# Altium integrated library Infineon_Microcontroller.IntLib: 721 symbols (part 1 of 66)
Pins are listed as number, name and electrical type; pins without a type are passive.

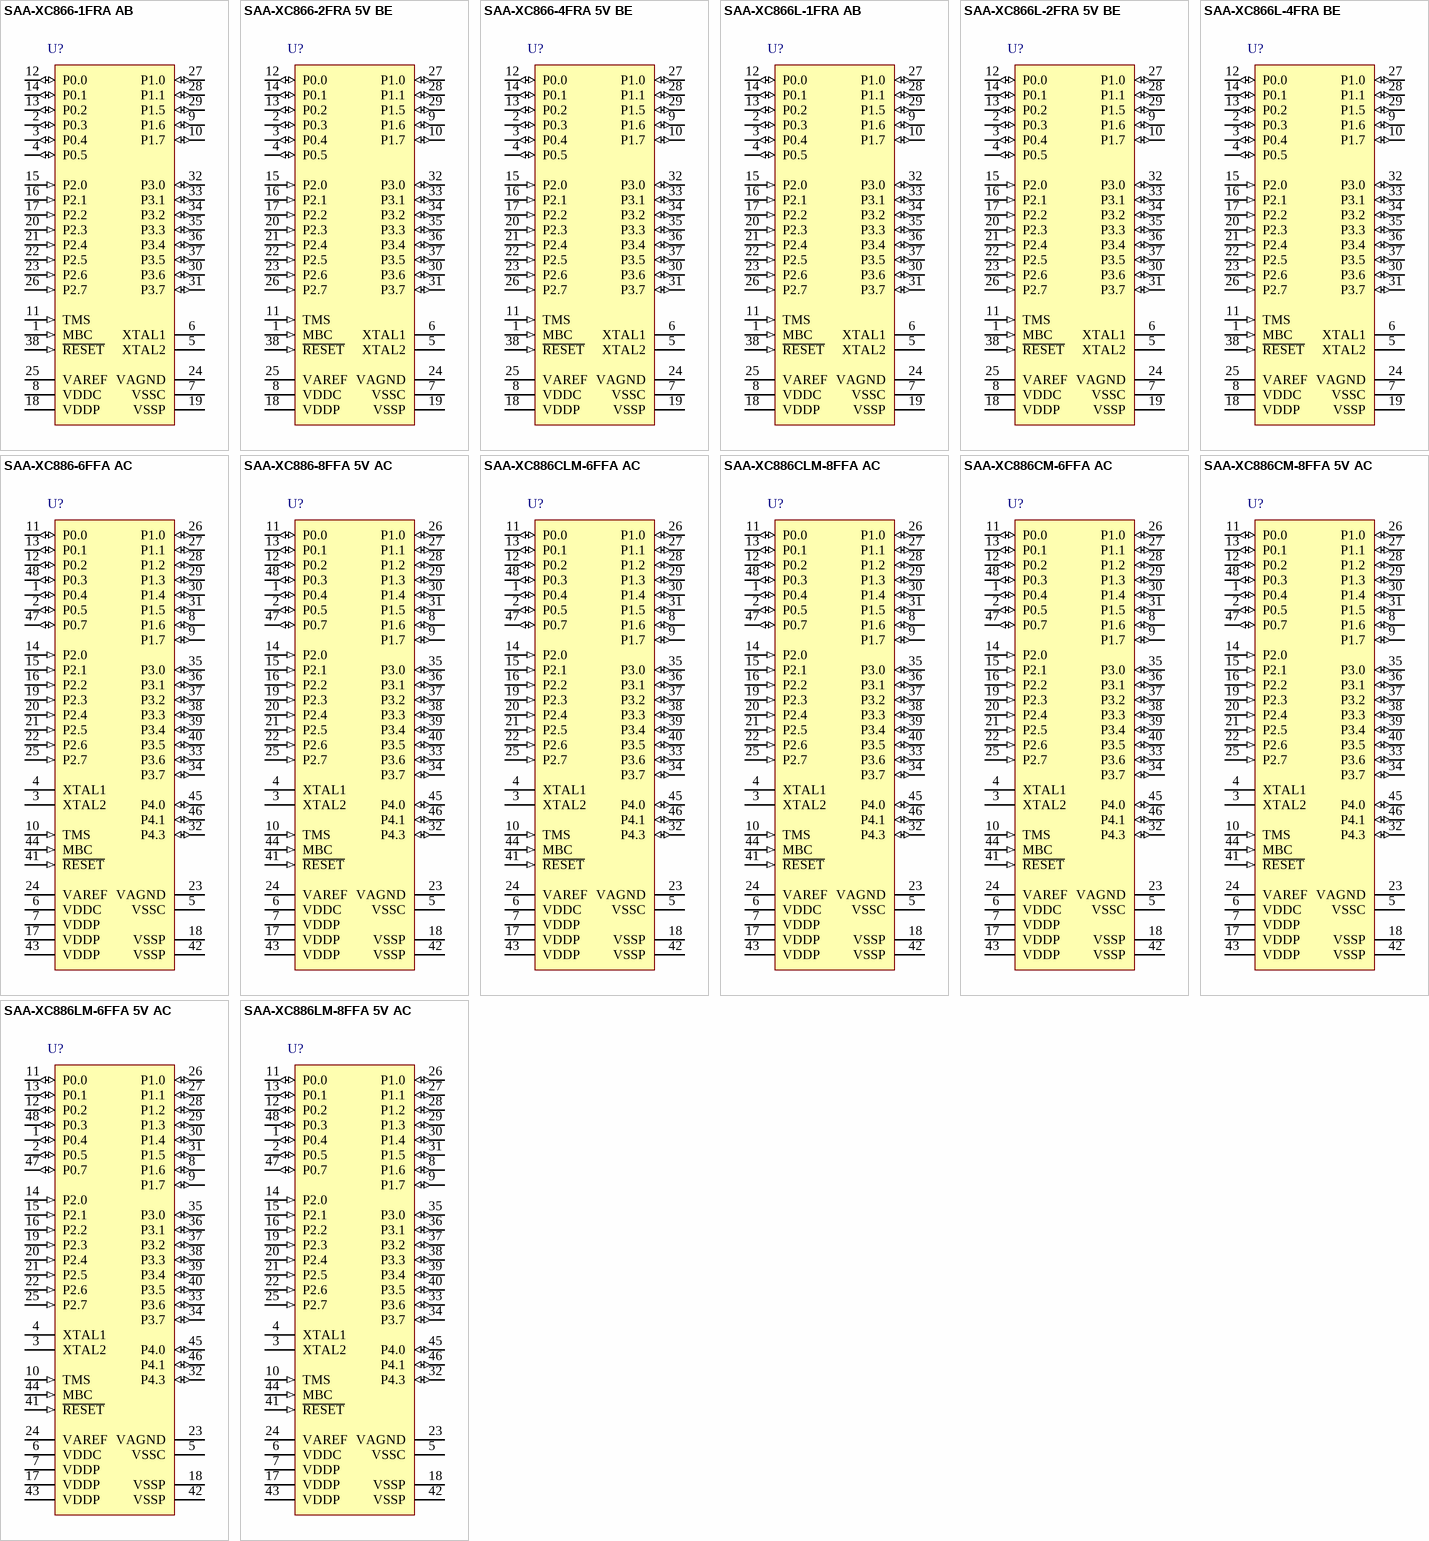
[diagram p0: symbols SAA-XC866-1FRA AB to SAA-XC886LM-8FFA 5V AC]

## SAA-XC866-1FRA AB
designator U?
26.67 MHz XC800-Automotive MCU with 4 KByte Program Memory, 0.75 KByte SRAM, 5 V, 3.3 V, PG-TSSOP-38, Reel, Green; Manufacturer: Infineon; PartNumber: SAA-XC866-1FRA AB; A / D input lines (incl. FADC): 8; CAN Nodes: 0; Digital I/O Lines: 27; DSP functionality (e.g MDU/MAC): FALSE; E2PROM Emulation (Data-Flash): TRUE; I/O Operation Voltages: 5 V 3.3 V; LIN BSL loader (for fast Flash programming): FALSE; Number of ADC Modules: 1; Power Modes: 4; Program Memory: 4 KByte; Serial I/O Interfaces: 2; Timer / Counter: 3; Type of Memory: Flash; Type of Serial I/O Interfaces: UART(1), SSC(1); DatasheetVersion: Rev. 1.5; PackageVersion: V1.2, 10/2007; PackageReference: PG-TSSOP-38-4; PackageDescription: 38-Pin Plastic (Green) Thin Shrink Small Outline Package, Body 9.7 x 4.4 mm, Pitch 0.5 mm; Supplier 1: Digi-Key; Supplier Part Number 1: SAA-XC866-1FRA AB-ND; DMA Channels: 0; Green: TRUE; Halogen-free: TRUE; Instruction width [bits]: 8; Max Clock Frequency: 26.67 MHz; On-chip clock generation: TRUE; On-chip Voltage Regulator: TRUE; Oscillator Watchdog: TRUE; Real Time Clock (RTC): FALSE; SRAM (incl. Cache): 0.75 KByte; Timed I/O Pins (PWM-Ch,CAPCOM): 4; Watchdog Timer: TRUE; Mounting Technology: Surface Mount; ComponentLink1Description: Manufacturer URL; ComponentLink1URL: http://www.infineon.com/; ComponentLink2Description: Datasheet; ComponentLink2URL: http://www.infineon.com/dgdl/SAA_XC866_ds_v1.5.pdf?folderId=db3a304412b407950112b408e8c90004&fileId=db3a30431689f442011690d942dc0119; ComponentLink3Description: Package Specification; ComponentLink3URL: http://www.infineon.com/dgdl/XC866_ds_v12.pdf?folderId=db3a304412b407950112b408e8c90004&fileId=db3a304412b407950112b4198e7528a5&sId=db3a30433d956bc3013da013eedc2925
footprint INF-PG-TSSOP-38-4_N (SOP, 38-Leads, Body 9.7x4.4mm, Pitch 0.5mm, IPC Medium Density)
footprint INF-PG-TSSOP-38-4_L (SOP, 38-Leads, Body 9.7x4.4mm, Pitch 0.5mm, IPC High Density)
footprint INF-PG-TSSOP-38-4_M (SOP, 38-Leads, Body 9.7x4.4mm, Pitch 0.5mm, IPC Low Density)
pins: 1 MBC (in) "Monitor & BootStrap Loader Control", 2 P0.3 (io), 3 P0.4 (io), 4 P0.5 (io), 5 XTAL2 "External Oscillator Output (NC if not needed)", 6 XTAL1 "External Oscillator Input (NC if not needed)", 7 VSSC (power) "Core Supply Ground", 8 VDDC (power) "Core Supply Monitor (2.5 V)", 9 P1.6 (io), 10 P1.7 (io), 11 TMS (in) "Test Mode Select", 12 P0.0 (io), 13 P0.2 (io), 14 P0.1 (io), 15 P2.0 (in), 16 P2.1 (in), 17 P2.2 (in), 18 VDDP (power) "I/O Port Supply (3.3 V/5.0 V) Also used by EVR and analog modules.", 19 VSSP (power) "I/O Port Ground", 20 P2.3 (in), 21 P2.4 (in), 22 P2.5 (in), 23 P2.6 (in), 24 VAGND (power) "ADC Reference Ground", 25 VAREF (power) "ADC Reference Voltage", 26 P2.7 (in), 27 P1.0 (io), 28 P1.1 (io), 29 P1.5 (io), 30 P3.6 (io), 31 P3.7 (io), 32 P3.0 (io), 33 P3.1 (io), 34 P3.2 (io), 35 P3.3 (io), 36 P3.4 (io), 37 P3.5 (io), 38 ~{RESET} (in) "Reset Input"

## SAA-XC866-2FRA 5V BE
designator U?
26.67 MHz XC800-Automotive MCU with 8 KByte Program Memory, 0.75 KByte SRAM, 5 V, 3.3 V, PG-TSSOP-38, Reel, Green; Manufacturer: Infineon; PartNumber: SAA-XC866-2FRA 5V BE; A / D input lines (incl. FADC): 8; CAN Nodes: 0; Digital I/O Lines: 27; DSP functionality (e.g MDU/MAC): FALSE; E2PROM Emulation (Data-Flash): TRUE; I/O Operation Voltages: 5 V 3.3 V; LIN BSL loader (for fast Flash programming): FALSE; Number of ADC Modules: 1; Power Modes: 4; Program Memory: 8 KByte; Serial I/O Interfaces: 2; Timer / Counter: 3; Type of Memory: Flash; Type of Serial I/O Interfaces: UART(1), SSC(1); DatasheetVersion: Rev. 1.5; PackageVersion: V1.2, 10/2007; PackageReference: PG-TSSOP-38-4; PackageDescription: 38-Pin Plastic (Green) Thin Shrink Small Outline Package, Body 9.7 x 4.4 mm, Pitch 0.5 mm; Supplier 1: Digi-Key; Supplier Part Number 1: SAA-XC866-2FRA5VBEINTR-ND; Supplier 2: Digi-Key; Supplier Part Number 2: SAA-XC866-2FRA5VBEINCT-ND; Supplier 3: Digi-Key; Supplier Part Number 3: SAA-XC866-2FRA5VBEINDKR-ND; DMA Channels: 0; Green: TRUE; Halogen-free: TRUE; Instruction width [bits]: 8; Max Clock Frequency: 26.67 MHz; On-chip clock generation: TRUE; On-chip Voltage Regulator: TRUE; Oscillator Watchdog: TRUE; Packing: Reel; Real Time Clock (RTC): FALSE; SRAM (incl. Cache): 0.75 KByte; Timed I/O Pins (PWM-Ch,CAPCOM): 4; Watchdog Timer: TRUE; Mounting Technology: Surface Mount; ComponentLink1Description: Manufacturer URL; ComponentLink1URL: http://www.infineon.com/; ComponentLink2Description: Datasheet; ComponentLink2URL: http://www.infineon.com/dgdl/SAA_XC866_ds_v1.5.pdf?folderId=db3a304412b407950112b408e8c90004&fileId=db3a30431689f442011690d942dc0119; ComponentLink3Description: Package Specification; ComponentLink3URL: http://www.infineon.com/dgdl/XC866_ds_v12.pdf?folderId=db3a304412b407950112b408e8c90004&fileId=db3a304412b407950112b4198e7528a5&sId=db3a30433d956bc3013da013eedc2925
footprint INF-PG-TSSOP-38-4_N (SOP, 38-Leads, Body 9.7x4.4mm, Pitch 0.5mm, IPC Medium Density)
footprint INF-PG-TSSOP-38-4_L (SOP, 38-Leads, Body 9.7x4.4mm, Pitch 0.5mm, IPC High Density)
footprint INF-PG-TSSOP-38-4_M (SOP, 38-Leads, Body 9.7x4.4mm, Pitch 0.5mm, IPC Low Density)
pins: 1 MBC (in) "Monitor & BootStrap Loader Control", 2 P0.3 (io), 3 P0.4 (io), 4 P0.5 (io), 5 XTAL2 "External Oscillator Output (NC if not needed)", 6 XTAL1 "External Oscillator Input (NC if not needed)", 7 VSSC (power) "Core Supply Ground", 8 VDDC (power) "Core Supply Monitor (2.5 V)", 9 P1.6 (io), 10 P1.7 (io), 11 TMS (in) "Test Mode Select", 12 P0.0 (io), 13 P0.2 (io), 14 P0.1 (io), 15 P2.0 (in), 16 P2.1 (in), 17 P2.2 (in), 18 VDDP (power) "I/O Port Supply (3.3 V/5.0 V) Also used by EVR and analog modules.", 19 VSSP (power) "I/O Port Ground", 20 P2.3 (in), 21 P2.4 (in), 22 P2.5 (in), 23 P2.6 (in), 24 VAGND (power) "ADC Reference Ground", 25 VAREF (power) "ADC Reference Voltage", 26 P2.7 (in), 27 P1.0 (io), 28 P1.1 (io), 29 P1.5 (io), 30 P3.6 (io), 31 P3.7 (io), 32 P3.0 (io), 33 P3.1 (io), 34 P3.2 (io), 35 P3.3 (io), 36 P3.4 (io), 37 P3.5 (io), 38 ~{RESET} (in) "Reset Input"

## SAA-XC866-4FRA 5V BE
designator U?
26.67 MHz XC800-Automotive MCU with 16 KByte Program Memory, 0.75 KByte SRAM, 5 V 3.3 V, PG-TSSOP-38, Reel, Green; Manufacturer: Infineon; PartNumber: SAA-XC866-4FRA 5V BE; A / D input lines (incl. FADC): 8; CAN Nodes: 0; Digital I/O Lines: 27; DSP functionality (e.g MDU/MAC): FALSE; E2PROM Emulation (Data-Flash): TRUE; I/O Operation Voltages: 5 V 3.3 V; LIN BSL loader (for fast Flash programming): FALSE; Number of ADC Modules: 1; Power Modes: 4; Serial I/O Interfaces: 2; Timer / Counter: 3; Type of Memory: Flash; Type of Serial I/O Interfaces: UART(1), SSC(1); DatasheetVersion: Rev. 1.5; PackageVersion: V1.2, 10/2007; PackageReference: PG-TSSOP-38-4; PackageDescription: 38-Pin Plastic (Green) Thin Shrink Small Outline Package, Body 9.7 x 4.4 mm, Pitch 0.5 mm; Supplier 1: Digi-Key; Supplier Part Number 1: SAA-XC866-4FRA5VBEINTR-ND; Supplier 2: Digi-Key; Supplier Part Number 2: SAA-XC866-4FRA5VBEINCT-ND; Supplier 3: Digi-Key; Supplier Part Number 3: SAA-XC866-4FRA5VBEINDKR-ND; DMA Channels: 0; Green: TRUE; Halogen-free: TRUE; Instruction width [bits]: 8; Max Clock Frequency: 26.67 MHz; On-chip clock generation: TRUE; On-chip Voltage Regulator: TRUE; Oscillator Watchdog: TRUE; Packing: Reel; Program Memory: 16 KByte; Real Time Clock (RTC): FALSE; SRAM (incl. Cache): 0.75 KByte; Timed I/O Pins (PWM-Ch,CAPCOM): 4; Watchdog Timer: TRUE; Mounting Technology: Surface Mount; ComponentLink1Description: Manufacturer URL; ComponentLink1URL: http://www.infineon.com/; ComponentLink2Description: Datasheet; ComponentLink2URL: http://www.infineon.com/dgdl/SAA_XC866_ds_v1.5.pdf?folderId=db3a304412b407950112b408e8c90004&fileId=db3a30431689f442011690d942dc0119; ComponentLink3Description: Package Specification; ComponentLink3URL: http://www.infineon.com/dgdl/XC866_ds_v12.pdf?folderId=db3a304412b407950112b408e8c90004&fileId=db3a304412b407950112b4198e7528a5&sId=db3a30433d956bc3013da013eedc2925
footprint INF-PG-TSSOP-38-4_N (SOP, 38-Leads, Body 9.7x4.4mm, Pitch 0.5mm, IPC Medium Density)
footprint INF-PG-TSSOP-38-4_L (SOP, 38-Leads, Body 9.7x4.4mm, Pitch 0.5mm, IPC High Density)
footprint INF-PG-TSSOP-38-4_M (SOP, 38-Leads, Body 9.7x4.4mm, Pitch 0.5mm, IPC Low Density)
pins: 1 MBC (in) "Monitor & BootStrap Loader Control", 2 P0.3 (io), 3 P0.4 (io), 4 P0.5 (io), 5 XTAL2 "External Oscillator Output (NC if not needed)", 6 XTAL1 "External Oscillator Input (NC if not needed)", 7 VSSC (power) "Core Supply Ground", 8 VDDC (power) "Core Supply Monitor (2.5 V)", 9 P1.6 (io), 10 P1.7 (io), 11 TMS (in) "Test Mode Select", 12 P0.0 (io), 13 P0.2 (io), 14 P0.1 (io), 15 P2.0 (in), 16 P2.1 (in), 17 P2.2 (in), 18 VDDP (power) "I/O Port Supply (3.3 V/5.0 V) Also used by EVR and analog modules.", 19 VSSP (power) "I/O Port Ground", 20 P2.3 (in), 21 P2.4 (in), 22 P2.5 (in), 23 P2.6 (in), 24 VAGND (power) "ADC Reference Ground", 25 VAREF (power) "ADC Reference Voltage", 26 P2.7 (in), 27 P1.0 (io), 28 P1.1 (io), 29 P1.5 (io), 30 P3.6 (io), 31 P3.7 (io), 32 P3.0 (io), 33 P3.1 (io), 34 P3.2 (io), 35 P3.3 (io), 36 P3.4 (io), 37 P3.5 (io), 38 ~{RESET} (in) "Reset Input"

## SAA-XC866L-1FRA AB
designator U?
26.67 MHz XC800-Automotive MCU with 4 KByte Program Memory, 0.75 KByte SRAM, 5 V, 3.3 V, PG-TSSOP-38, Reel, Green; Manufacturer: Infineon; PartNumber: SAA-XC866L-1FRA AB; A / D input lines (incl. FADC): 8; CAN Nodes: 0; Digital I/O Lines: 27; DSP functionality (e.g MDU/MAC): FALSE; E2PROM Emulation (Data-Flash): TRUE; I/O Operation Voltages: 5 V 3.3 V; LIN BSL loader (for fast Flash programming): FALSE; Number of ADC Modules: 1; Power Modes: 4; Program Memory: 4 KByte; Serial I/O Interfaces: 2; Timer / Counter: 3; Type of Memory: Flash; Type of Serial I/O Interfaces: UART(1), SSC(1); DatasheetVersion: Rev. 1.5; PackageVersion: V1.2, 10/2007; PackageReference: PG-TSSOP-38-4; PackageDescription: 38-Pin Plastic (Green) Thin Shrink Small Outline Package, Body 9.7 x 4.4 mm, Pitch 0.5 mm; Supplier 1: Digi-Key; Supplier Part Number 1: SAA-XC866L-1FRA AB-ND; DMA Channels: 0; Green: TRUE; Halogen-free: available; Instruction width [bits]: 8; Max Clock Frequency: 26.67 MHz; On-chip clock generation: TRUE; On-chip Voltage Regulator: TRUE; Oscillator Watchdog: TRUE; Real Time Clock (RTC): FALSE; SRAM (incl. Cache): 0.75 KByte; Timed I/O Pins (PWM-Ch,CAPCOM): 4; Watchdog Timer: TRUE; Mounting Technology: Surface Mount; ComponentLink1Description: Manufacturer URL; ComponentLink1URL: http://www.infineon.com/; ComponentLink2Description: Datasheet; ComponentLink2URL: http://www.infineon.com/dgdl/SAA_XC866_ds_v1.5.pdf?folderId=db3a304412b407950112b408e8c90004&fileId=db3a30431689f442011690d942dc0119; ComponentLink3Description: Package Specification; ComponentLink3URL: http://www.infineon.com/dgdl/XC866_ds_v12.pdf?folderId=db3a304412b407950112b408e8c90004&fileId=db3a304412b407950112b4198e7528a5&sId=db3a30433d956bc3013da013eedc2925
footprint INF-PG-TSSOP-38-4_N (SOP, 38-Leads, Body 9.7x4.4mm, Pitch 0.5mm, IPC Medium Density)
footprint INF-PG-TSSOP-38-4_L (SOP, 38-Leads, Body 9.7x4.4mm, Pitch 0.5mm, IPC High Density)
footprint INF-PG-TSSOP-38-4_M (SOP, 38-Leads, Body 9.7x4.4mm, Pitch 0.5mm, IPC Low Density)
pins: 1 MBC (in) "Monitor & BootStrap Loader Control", 2 P0.3 (io), 3 P0.4 (io), 4 P0.5 (io), 5 XTAL2 "External Oscillator Output (NC if not needed)", 6 XTAL1 "External Oscillator Input (NC if not needed)", 7 VSSC (power) "Core Supply Ground", 8 VDDC (power) "Core Supply Monitor (2.5 V)", 9 P1.6 (io), 10 P1.7 (io), 11 TMS (in) "Test Mode Select", 12 P0.0 (io), 13 P0.2 (io), 14 P0.1 (io), 15 P2.0 (in), 16 P2.1 (in), 17 P2.2 (in), 18 VDDP (power) "I/O Port Supply (3.3 V/5.0 V) Also used by EVR and analog modules.", 19 VSSP (power) "I/O Port Ground", 20 P2.3 (in), 21 P2.4 (in), 22 P2.5 (in), 23 P2.6 (in), 24 VAGND (power) "ADC Reference Ground", 25 VAREF (power) "ADC Reference Voltage", 26 P2.7 (in), 27 P1.0 (io), 28 P1.1 (io), 29 P1.5 (io), 30 P3.6 (io), 31 P3.7 (io), 32 P3.0 (io), 33 P3.1 (io), 34 P3.2 (io), 35 P3.3 (io), 36 P3.4 (io), 37 P3.5 (io), 38 ~{RESET} (in) "Reset Input"

## SAA-XC866L-2FRA 5V BE
designator U?
26.67 MHz XC800-Automotive MCU with 8 KByte Program Memory, 0.75 KByte SRAM, 5 V, 3.3 V, PG-TSSOP-38, Reel, Green; Manufacturer: Infineon; PartNumber: SAA-XC866L-2FRA 5V BE; A / D input lines (incl. FADC): 8; CAN Nodes: 0; Digital I/O Lines: 27; DSP functionality (e.g MDU/MAC): FALSE; E2PROM Emulation (Data-Flash): TRUE; I/O Operation Voltages: 5 V 3.3 V; LIN BSL loader (for fast Flash programming): FALSE; Number of ADC Modules: 1; Power Modes: 4; Program Memory: 8 KByte; Serial I/O Interfaces: 2; Timer / Counter: 3; Type of Memory: Flash; Type of Serial I/O Interfaces: UART(1), SSC(1); DatasheetVersion: Rev. 1.5; PackageVersion: V1.2, 10/2007; PackageReference: PG-TSSOP-38-4; PackageDescription: 38-Pin Plastic (Green) Thin Shrink Small Outline Package, Body 9.7 x 4.4 mm, Pitch 0.5 mm; Supplier 1: Digi-Key; Supplier Part Number 1: SAA-XC866L-2FRA 5V BE-ND; DMA Channels: 0; Green: TRUE; Halogen-free: available; Instruction width [bits]: 8; Max Clock Frequency: 26.67 MHz; On-chip clock generation: TRUE; On-chip Voltage Regulator: TRUE; Oscillator Watchdog: TRUE; Real Time Clock (RTC): FALSE; SRAM (incl. Cache): 0.75 KByte; Timed I/O Pins (PWM-Ch,CAPCOM): 4; Watchdog Timer: TRUE; Mounting Technology: Surface Mount; ComponentLink1Description: Manufacturer URL; ComponentLink1URL: http://www.infineon.com/; ComponentLink2Description: Datasheet; ComponentLink2URL: http://www.infineon.com/dgdl/SAA_XC866_ds_v1.5.pdf?folderId=db3a304412b407950112b408e8c90004&fileId=db3a30431689f442011690d942dc0119; ComponentLink3Description: Package Specification; ComponentLink3URL: http://www.infineon.com/dgdl/XC866_ds_v12.pdf?folderId=db3a304412b407950112b408e8c90004&fileId=db3a304412b407950112b4198e7528a5&sId=db3a30433d956bc3013da013eedc2925
footprint INF-PG-TSSOP-38-4_N (SOP, 38-Leads, Body 9.7x4.4mm, Pitch 0.5mm, IPC Medium Density)
footprint INF-PG-TSSOP-38-4_L (SOP, 38-Leads, Body 9.7x4.4mm, Pitch 0.5mm, IPC High Density)
footprint INF-PG-TSSOP-38-4_M (SOP, 38-Leads, Body 9.7x4.4mm, Pitch 0.5mm, IPC Low Density)
pins: 1 MBC (in) "Monitor & BootStrap Loader Control", 2 P0.3 (io), 3 P0.4 (io), 4 P0.5 (io), 5 XTAL2 "External Oscillator Output (NC if not needed)", 6 XTAL1 "External Oscillator Input (NC if not needed)", 7 VSSC (power) "Core Supply Ground", 8 VDDC (power) "Core Supply Monitor (2.5 V)", 9 P1.6 (io), 10 P1.7 (io), 11 TMS (in) "Test Mode Select", 12 P0.0 (io), 13 P0.2 (io), 14 P0.1 (io), 15 P2.0 (in), 16 P2.1 (in), 17 P2.2 (in), 18 VDDP (power) "I/O Port Supply (3.3 V/5.0 V) Also used by EVR and analog modules.", 19 VSSP (power) "I/O Port Ground", 20 P2.3 (in), 21 P2.4 (in), 22 P2.5 (in), 23 P2.6 (in), 24 VAGND (power) "ADC Reference Ground", 25 VAREF (power) "ADC Reference Voltage", 26 P2.7 (in), 27 P1.0 (io), 28 P1.1 (io), 29 P1.5 (io), 30 P3.6 (io), 31 P3.7 (io), 32 P3.0 (io), 33 P3.1 (io), 34 P3.2 (io), 35 P3.3 (io), 36 P3.4 (io), 37 P3.5 (io), 38 ~{RESET} (in) "Reset Input"

## SAA-XC866L-4FRA BE
designator U?
26.67 MHz XC800-Automotive MCU with 16 KByte Program Memory, 0.75 KByte SRAM, 5 V 3.3 V, PG-TSSOP-38, Reel, Green; Manufacturer: Infineon; PartNumber: SAA-XC866L-4FRA BE; A / D input lines (incl. FADC): 8; CAN Nodes: 0; Digital I/O Lines: 27; DSP functionality (e.g MDU/MAC): FALSE; E2PROM Emulation (Data-Flash): TRUE; I/O Operation Voltages: 5 V 3.3 V; LIN BSL loader (for fast Flash programming): FALSE; Number of ADC Modules: 1; Power Modes: 4; Serial I/O Interfaces: 2; Timer / Counter: 3; Type of Memory: Flash; Type of Serial I/O Interfaces: UART(1), SSC(1); DatasheetVersion: Rev. 1.5; PackageVersion: V1.2, 10/2007; PackageReference: PG-TSSOP-38-4; PackageDescription: 38-Pin Plastic (Green) Thin Shrink Small Outline Package, Body 9.7 x 4.4 mm, Pitch 0.5 mm; Supplier 1: Digi-Key; Supplier Part Number 1: SAA-XC866L-4FRA BE-ND; DMA Channels: 0; Green: TRUE; Halogen-free: available; Instruction width [bits]: 8; Max Clock Frequency: 26.67 MHz; On-chip clock generation: TRUE; On-chip Voltage Regulator: TRUE; Oscillator Watchdog: TRUE; Packing: Reel; Program Memory: 16 KByte; Real Time Clock (RTC): FALSE; SRAM (incl. Cache): 0.75 KByte; Timed I/O Pins (PWM-Ch,CAPCOM): 4; Watchdog Timer: TRUE; Mounting Technology: Surface Mount; ComponentLink1Description: Manufacturer URL; ComponentLink1URL: http://www.infineon.com/; ComponentLink2Description: Datasheet; ComponentLink2URL: http://www.infineon.com/dgdl/SAA_XC866_ds_v1.5.pdf?folderId=db3a304412b407950112b408e8c90004&fileId=db3a30431689f442011690d942dc0119; ComponentLink3Description: Package Specification; ComponentLink3URL: http://www.infineon.com/dgdl/XC866_ds_v12.pdf?folderId=db3a304412b407950112b408e8c90004&fileId=db3a304412b407950112b4198e7528a5&sId=db3a30433d956bc3013da013eedc2925
footprint INF-PG-TSSOP-38-4_N (SOP, 38-Leads, Body 9.7x4.4mm, Pitch 0.5mm, IPC Medium Density)
footprint INF-PG-TSSOP-38-4_L (SOP, 38-Leads, Body 9.7x4.4mm, Pitch 0.5mm, IPC High Density)
footprint INF-PG-TSSOP-38-4_M (SOP, 38-Leads, Body 9.7x4.4mm, Pitch 0.5mm, IPC Low Density)
pins: 1 MBC (in) "Monitor & BootStrap Loader Control", 2 P0.3 (io), 3 P0.4 (io), 4 P0.5 (io), 5 XTAL2 "External Oscillator Output (NC if not needed)", 6 XTAL1 "External Oscillator Input (NC if not needed)", 7 VSSC (power) "Core Supply Ground", 8 VDDC (power) "Core Supply Monitor (2.5 V)", 9 P1.6 (io), 10 P1.7 (io), 11 TMS (in) "Test Mode Select", 12 P0.0 (io), 13 P0.2 (io), 14 P0.1 (io), 15 P2.0 (in), 16 P2.1 (in), 17 P2.2 (in), 18 VDDP (power) "I/O Port Supply (3.3 V/5.0 V) Also used by EVR and analog modules.", 19 VSSP (power) "I/O Port Ground", 20 P2.3 (in), 21 P2.4 (in), 22 P2.5 (in), 23 P2.6 (in), 24 VAGND (power) "ADC Reference Ground", 25 VAREF (power) "ADC Reference Voltage", 26 P2.7 (in), 27 P1.0 (io), 28 P1.1 (io), 29 P1.5 (io), 30 P3.6 (io), 31 P3.7 (io), 32 P3.0 (io), 33 P3.1 (io), 34 P3.2 (io), 35 P3.3 (io), 36 P3.4 (io), 37 P3.5 (io), 38 ~{RESET} (in) "Reset Input"

## SAA-XC886-6FFA AC
designator U?
24 MHz XC800-Automotive MCU with 24 KByte Program Memory, 1.75 KByte SRAM, 5 V, PG-TQFP-48, Reel, Green; Manufacturer: Infineon; PartNumber: SAA-XC886-6FFA AC; A / D input lines (incl. FADC): 8; CAN Nodes: 0; Digital I/O Lines: 34; DSP functionality (e.g MDU/MAC): TRUE; I/O Operation Voltages: 5 V; LIN BSL loader (for fast Flash programming): FALSE; Max Clock Frequency: 24 MHz; Number of ADC Modules: 1; Power Modes: 4; Real Time Clock (RTC): FALSE; Serial I/O Interfaces: 3; Type of Memory: Flash; Type of Serial I/O Interfaces: UART(2), SSC(1); DatasheetVersion: Rev. 1.1; PackageVersion: V1.2, 07/2009; PackageReference: PG-TQFP-48-2; PackageDescription: 48-Pin Plastic (Green) Thin Quad Flat Package, Body 7 x 7 mm, Pitch 0.5 mm; Supplier 1: Digi-Key; Supplier Part Number 1: SAA-XC886-6FFA AC-ND; DMA Channels: 0; E2PROM Emulation (Data-Flash): TRUE; Green: TRUE; Halogen-free: TRUE; Instruction width [bits]: 8; On-chip clock generation: TRUE; On-chip Voltage Regulator: TRUE; Oscillator Watchdog: TRUE; Program Memory: 24 KByte; SRAM (incl. Cache): 1.75 KByte; Timed I/O Pins (PWM-Ch,CAPCOM): 4; Timer / Counter: 4; Watchdog Timer: TRUE; Mounting Technology: Surface Mount; ComponentLink1Description: Manufacturer URL; ComponentLink1URL: http://www.infineon.com/; ComponentLink2Description: Datasheet; ComponentLink2URL: http://www.infineon.com/dgdl/SAA_XC886CLM_ds_v1_1.pdf?folderId=db3a304412b407950112b40c497b0af6&fileId=db3a3043242ebc9e01242f158d250004; ComponentLink3Description: Package Specification; ComponentLink3URL: http://www.infineon.com/dgdl/XC88xCLM_ds_V1_2.pdf?folderId=db3a304412b407950112b408e8c90004&fileId=db3a304412b407950112b40c4a9e0afb&sId=db3a30433d956bc3013d9f3d9f5d28dc
footprint INF-PG-TQFP-48-2_N (QFP, 48-Leads, Body 7x7mm, Pitch 0.5mm, IPC Medium Density)
footprint INF-PG-TQFP-48-2_L (QFP, 48-Leads, Body 7x7mm, Pitch 0.5mm, IPC High Density)
footprint INF-PG-TQFP-48-2_M (QFP, 48-Leads, Body 7x7mm, Pitch 0.5mm, IPC Low Density)
pins: 1 P0.4 (io), 2 P0.5 (io), 3 XTAL2 "External Oscillator Output (backup for on-chip OSC, normally NC)", 4 XTAL1 "External Oscillator Input (backup for on-chip OSC, normally NC)", 5 VSSC (power) "Core Supply Ground", 6 VDDC (power) "Core Supply Monitor (2.5 V)", 7 VDDP (power) "I/O Port Supply (5.0 V) Also used by EVR and analog modules. All pins must be connected.", 8 P1.6 (io), 9 P1.7 (io), 10 TMS (in) "Test Mode Select", 11 P0.0 (io), 12 P0.2 (io), 13 P0.1 (io), 14 P2.0 (in), 15 P2.1 (in), 16 P2.2 (in), 17 VDDP (power) "I/O Port Supply (5.0 V) Also used by EVR and analog modules. All pins must be connected.", 18 VSSP (power) "I/O Port Ground All pins must be connected.", 19 P2.3 (in), 20 P2.4 (in), 21 P2.5 (in), 22 P2.6 (in), 23 VAGND (power) "ADC Reference Ground", 24 VAREF (power) "ADC Reference Voltage", 25 P2.7 (in), 26 P1.0 (io), 27 P1.1 (io), 28 P1.2 (io), 29 P1.3 (io), 30 P1.4 (io), 31 P1.5 (io), 32 P4.3 (io), 33 P3.6 (io), 34 P3.7 (io), 35 P3.0 (io), 36 P3.1 (io), 37 P3.2 (io), 38 P3.3 (io), 39 P3.4 (io), 40 P3.5 (io), 41 ~{RESET} (in) "Reset Input", 42 VSSP (power) "I/O Port Ground All pins must be connected.", 43 VDDP (power) "I/O Port Supply (5.0 V) Also used by EVR and analog modules. All pins must be connected.", 44 MBC (in) "Monitor & BootStrap Loader Control", 45 P4.0 (io), 46 P4.1 (io), 47 P0.7 (io), 48 P0.3 (io)

## SAA-XC886-8FFA 5V AC
designator U?
24 MHz XC800-Automotive MCU with 32 KByte Program Memory, 1.75 KByte SRAM, 5 V, PG-TQFP-48, Reel, Green; Manufacturer: Infineon; PartNumber: SAA-XC886-8FFA 5V AC; A / D input lines (incl. FADC): 8; CAN Nodes: 0; Digital I/O Lines: 34; DSP functionality (e.g MDU/MAC): TRUE; I/O Operation Voltages: 5 V; LIN BSL loader (for fast Flash programming): FALSE; Max Clock Frequency: 24 MHz; Number of ADC Modules: 1; Power Modes: 4; Real Time Clock (RTC): FALSE; Serial I/O Interfaces: 3; Type of Memory: Flash; Type of Serial I/O Interfaces: UART(2), SSC(1); DatasheetVersion: Rev. 1.1; PackageVersion: V1.2, 07/2009; PackageReference: PG-TQFP-48-2; PackageDescription: 48-Pin Plastic (Green) Thin Quad Flat Package, Body 7 x 7 mm, Pitch 0.5 mm; Supplier 1: Digi-Key; Supplier Part Number 1: SAA-XC886-8FFA AC-ND; DMA Channels: 0; E2PROM Emulation (Data-Flash): TRUE; Green: TRUE; Halogen-free: TRUE; Instruction width [bits]: 8; On-chip clock generation: TRUE; On-chip Voltage Regulator: TRUE; Oscillator Watchdog: TRUE; Program Memory: 32 KByte; SRAM (incl. Cache): 1.75 KByte; Timed I/O Pins (PWM-Ch,CAPCOM): 4; Timer / Counter: 4; Watchdog Timer: TRUE; Mounting Technology: Surface Mount; ComponentLink1Description: Manufacturer URL; ComponentLink1URL: http://www.infineon.com/; ComponentLink2Description: Datasheet; ComponentLink2URL: http://www.infineon.com/dgdl/SAA_XC886CLM_ds_v1_1.pdf?folderId=db3a304412b407950112b40c497b0af6&fileId=db3a3043242ebc9e01242f158d250004; ComponentLink3Description: Package Specification; ComponentLink3URL: http://www.infineon.com/dgdl/XC88xCLM_ds_V1_2.pdf?folderId=db3a304412b407950112b408e8c90004&fileId=db3a304412b407950112b40c4a9e0afb&sId=db3a30433d956bc3013d9f3d9f5d28dc
footprint INF-PG-TQFP-48-2_N (QFP, 48-Leads, Body 7x7mm, Pitch 0.5mm, IPC Medium Density)
footprint INF-PG-TQFP-48-2_L (QFP, 48-Leads, Body 7x7mm, Pitch 0.5mm, IPC High Density)
footprint INF-PG-TQFP-48-2_M (QFP, 48-Leads, Body 7x7mm, Pitch 0.5mm, IPC Low Density)
pins: 1 P0.4 (io), 2 P0.5 (io), 3 XTAL2 "External Oscillator Output (backup for on-chip OSC, normally NC)", 4 XTAL1 "External Oscillator Input (backup for on-chip OSC, normally NC)", 5 VSSC (power) "Core Supply Ground", 6 VDDC (power) "Core Supply Monitor (2.5 V)", 7 VDDP (power) "I/O Port Supply (5.0 V) Also used by EVR and analog modules. All pins must be connected.", 8 P1.6 (io), 9 P1.7 (io), 10 TMS (in) "Test Mode Select", 11 P0.0 (io), 12 P0.2 (io), 13 P0.1 (io), 14 P2.0 (in), 15 P2.1 (in), 16 P2.2 (in), 17 VDDP (power) "I/O Port Supply (5.0 V) Also used by EVR and analog modules. All pins must be connected.", 18 VSSP (power) "I/O Port Ground All pins must be connected.", 19 P2.3 (in), 20 P2.4 (in), 21 P2.5 (in), 22 P2.6 (in), 23 VAGND (power) "ADC Reference Ground", 24 VAREF (power) "ADC Reference Voltage", 25 P2.7 (in), 26 P1.0 (io), 27 P1.1 (io), 28 P1.2 (io), 29 P1.3 (io), 30 P1.4 (io), 31 P1.5 (io), 32 P4.3 (io), 33 P3.6 (io), 34 P3.7 (io), 35 P3.0 (io), 36 P3.1 (io), 37 P3.2 (io), 38 P3.3 (io), 39 P3.4 (io), 40 P3.5 (io), 41 ~{RESET} (in) "Reset Input", 42 VSSP (power) "I/O Port Ground All pins must be connected.", 43 VDDP (power) "I/O Port Supply (5.0 V) Also used by EVR and analog modules. All pins must be connected.", 44 MBC (in) "Monitor & BootStrap Loader Control", 45 P4.0 (io), 46 P4.1 (io), 47 P0.7 (io), 48 P0.3 (io)

## SAA-XC886CLM-6FFA AC
designator U?
24 MHz XC800 MCU with 24 KByte Program Memory, 1.75 KByte SRAM, -40 to 140 degC, PG-TQFP-48-2, Green; Manufacturer: Infineon; PartNumber: SAA-XC886CLM-6FFA AC; A / D input lines (incl. FADC): 8; CAN Nodes: 2; Green: TRUE; Max Clock Frequency: 24 MHz; Packing: Reel; DatasheetVersion: Rev. 1.1; PackageVersion: V1.2, 07/2009; PackageReference: PG-TQFP-48-2; PackageDescription: 48-Pin Plastic (Green) Thin Quad Flat Package, Body 7 x 7 mm, Pitch 0.5 mm; Supplier 1: Digi-Key; Supplier Part Number 1: SAA-XC886CLM-6FFA AC-ND; Halogen-free: FALSE; Program Memory: 24 KByte; SRAM (incl. Cache): 1.75 KByte; Mounting Technology: Surface Mount; ComponentLink1Description: Manufacturer URL; ComponentLink1URL: http://www.infineon.com/; ComponentLink2Description: Datasheet; ComponentLink2URL: http://www.infineon.com/dgdl/SAA_XC886CLM_ds_v1_1.pdf?folderId=db3a304412b407950112b40c497b0af6&fileId=db3a3043242ebc9e01242f158d250004; ComponentLink3Description: Package Specification; ComponentLink3URL: http://www.infineon.com/dgdl/XC88xCLM_ds_V1_2.pdf?folderId=db3a304412b407950112b408e8c90004&fileId=db3a304412b407950112b40c4a9e0afb&sId=db3a30433d956bc3013d9f3d9f5d28dc
footprint INF-PG-TQFP-48-2_N (QFP, 48-Leads, Body 7x7mm, Pitch 0.5mm, IPC Medium Density)
footprint INF-PG-TQFP-48-2_L (QFP, 48-Leads, Body 7x7mm, Pitch 0.5mm, IPC High Density)
footprint INF-PG-TQFP-48-2_M (QFP, 48-Leads, Body 7x7mm, Pitch 0.5mm, IPC Low Density)
pins: 1 P0.4 (io), 2 P0.5 (io), 3 XTAL2 "External Oscillator Output (backup for on-chip OSC, normally NC)", 4 XTAL1 "External Oscillator Input (backup for on-chip OSC, normally NC)", 5 VSSC (power) "Core Supply Ground", 6 VDDC (power) "Core Supply Monitor (2.5 V)", 7 VDDP (power) "I/O Port Supply (5.0 V) Also used by EVR and analog modules. All pins must be connected.", 8 P1.6 (io), 9 P1.7 (io), 10 TMS (in) "Test Mode Select", 11 P0.0 (io), 12 P0.2 (io), 13 P0.1 (io), 14 P2.0 (in), 15 P2.1 (in), 16 P2.2 (in), 17 VDDP (power) "I/O Port Supply (5.0 V) Also used by EVR and analog modules. All pins must be connected.", 18 VSSP (power) "I/O Port Ground All pins must be connected.", 19 P2.3 (in), 20 P2.4 (in), 21 P2.5 (in), 22 P2.6 (in), 23 VAGND (power) "ADC Reference Ground", 24 VAREF (power) "ADC Reference Voltage", 25 P2.7 (in), 26 P1.0 (io), 27 P1.1 (io), 28 P1.2 (io), 29 P1.3 (io), 30 P1.4 (io), 31 P1.5 (io), 32 P4.3 (io), 33 P3.6 (io), 34 P3.7 (io), 35 P3.0 (io), 36 P3.1 (io), 37 P3.2 (io), 38 P3.3 (io), 39 P3.4 (io), 40 P3.5 (io), 41 ~{RESET} (in) "Reset Input", 42 VSSP (power) "I/O Port Ground All pins must be connected.", 43 VDDP (power) "I/O Port Supply (5.0 V) Also used by EVR and analog modules. All pins must be connected.", 44 MBC (in) "Monitor & BootStrap Loader Control", 45 P4.0 (io), 46 P4.1 (io), 47 P0.7 (io), 48 P0.3 (io)

## SAA-XC886CLM-8FFA AC
designator U?
24 MHz XC800-Automotive MCU with 32 KByte Program Memory, 1.75 KByte SRAM, 5 V, PG-TQFP-48, Reel, Green; Manufacturer: Infineon; PartNumber: SAA-XC886CLM-8FFA AC; A / D input lines (incl. FADC): 8; CAN Nodes: 2; Digital I/O Lines: 34; DMA Channels: 0; DSP functionality (e.g MDU/MAC): TRUE; I/O Operation Voltages: 5 V; LIN BSL loader (for fast Flash programming): FALSE; Max Clock Frequency: 24 MHz; Number of ADC Modules: 1; Power Modes: 4; Real Time Clock (RTC): FALSE; Serial I/O Interfaces: 3; Type of Memory: Flash; Type of Serial I/O Interfaces: UART(2), SSC(1); DatasheetVersion: Rev. 1.1; PackageVersion: V1.2, 07/2009; PackageReference: PG-TQFP-48-2; PackageDescription: 48-Pin Plastic (Green) Thin Quad Flat Package, Body 7 x 7 mm, Pitch 0.5 mm; Supplier 1: Mouser; Supplier Part Number 1: 726-AAXC886CLM8FFAAC; Supplier 2: Digi-Key; Supplier Part Number 2: SAA-XC886CLM-8FFA AC-ND; E2PROM Emulation (Data-Flash): TRUE; Green: TRUE; Halogen-free: TRUE; Instruction width [bits]: 8; On-chip clock generation: TRUE; On-chip Voltage Regulator: TRUE; Oscillator Watchdog: TRUE; Packing: Reel; Program Memory: 32 KByte; SRAM (incl. Cache): 1.75 KByte; Timed I/O Pins (PWM-Ch,CAPCOM): 4; Timer / Counter: 4; Watchdog Timer: TRUE; Mounting Technology: Surface Mount; ComponentLink1Description: Manufacturer URL; ComponentLink1URL: http://www.infineon.com/; ComponentLink2Description: Datasheet; ComponentLink2URL: http://www.infineon.com/dgdl/SAA_XC886CLM_ds_v1_1.pdf?folderId=db3a304412b407950112b40c497b0af6&fileId=db3a3043242ebc9e01242f158d250004; ComponentLink3Description: Package Specification; ComponentLink3URL: http://www.infineon.com/dgdl/XC88xCLM_ds_V1_2.pdf?folderId=db3a304412b407950112b408e8c90004&fileId=db3a304412b407950112b40c4a9e0afb&sId=db3a30433d956bc3013d9f3d9f5d28dc
footprint INF-PG-TQFP-48-2_N (QFP, 48-Leads, Body 7x7mm, Pitch 0.5mm, IPC Medium Density)
footprint INF-PG-TQFP-48-2_L (QFP, 48-Leads, Body 7x7mm, Pitch 0.5mm, IPC High Density)
footprint INF-PG-TQFP-48-2_M (QFP, 48-Leads, Body 7x7mm, Pitch 0.5mm, IPC Low Density)
pins: 1 P0.4 (io), 2 P0.5 (io), 3 XTAL2 "External Oscillator Output (backup for on-chip OSC, normally NC)", 4 XTAL1 "External Oscillator Input (backup for on-chip OSC, normally NC)", 5 VSSC (power) "Core Supply Ground", 6 VDDC (power) "Core Supply Monitor (2.5 V)", 7 VDDP (power) "I/O Port Supply (5.0 V) Also used by EVR and analog modules. All pins must be connected.", 8 P1.6 (io), 9 P1.7 (io), 10 TMS (in) "Test Mode Select", 11 P0.0 (io), 12 P0.2 (io), 13 P0.1 (io), 14 P2.0 (in), 15 P2.1 (in), 16 P2.2 (in), 17 VDDP (power) "I/O Port Supply (5.0 V) Also used by EVR and analog modules. All pins must be connected.", 18 VSSP (power) "I/O Port Ground All pins must be connected.", 19 P2.3 (in), 20 P2.4 (in), 21 P2.5 (in), 22 P2.6 (in), 23 VAGND (power) "ADC Reference Ground", 24 VAREF (power) "ADC Reference Voltage", 25 P2.7 (in), 26 P1.0 (io), 27 P1.1 (io), 28 P1.2 (io), 29 P1.3 (io), 30 P1.4 (io), 31 P1.5 (io), 32 P4.3 (io), 33 P3.6 (io), 34 P3.7 (io), 35 P3.0 (io), 36 P3.1 (io), 37 P3.2 (io), 38 P3.3 (io), 39 P3.4 (io), 40 P3.5 (io), 41 ~{RESET} (in) "Reset Input", 42 VSSP (power) "I/O Port Ground All pins must be connected.", 43 VDDP (power) "I/O Port Supply (5.0 V) Also used by EVR and analog modules. All pins must be connected.", 44 MBC (in) "Monitor & BootStrap Loader Control", 45 P4.0 (io), 46 P4.1 (io), 47 P0.7 (io), 48 P0.3 (io)

## SAA-XC886CM-6FFA AC
designator U?
24 MHz XC800 MCU with 24 KByte Program Memory, 1.75 KByte SRAM, -40 to 140 degC, PG-TQFP-48-2, Green; Manufacturer: Infineon; PartNumber: SAA-XC886CM-6FFA AC; A / D input lines (incl. FADC): 8; CAN Nodes: 2; Green: TRUE; Max Clock Frequency: 24 MHz; DatasheetVersion: Rev. 1.1; PackageVersion: V1.2, 07/2009; PackageReference: PG-TQFP-48-2; PackageDescription: 48-Pin Plastic (Green) Thin Quad Flat Package, Body 7 x 7 mm, Pitch 0.5 mm; Halogen-free: FALSE; Program Memory: 24 KByte; SRAM (incl. Cache): 1.75 KByte; Mounting Technology: Surface Mount; ComponentLink1Description: Manufacturer URL; ComponentLink1URL: http://www.infineon.com/; ComponentLink2Description: Datasheet; ComponentLink2URL: http://www.infineon.com/dgdl/SAA_XC886CLM_ds_v1_1.pdf?folderId=db3a304412b407950112b40c497b0af6&fileId=db3a3043242ebc9e01242f158d250004; ComponentLink3Description: Package Specification; ComponentLink3URL: http://www.infineon.com/dgdl/XC88xCLM_ds_V1_2.pdf?folderId=db3a304412b407950112b408e8c90004&fileId=db3a304412b407950112b40c4a9e0afb&sId=db3a30433d956bc3013d9f3d9f5d28dc
footprint INF-PG-TQFP-48-2_N (QFP, 48-Leads, Body 7x7mm, Pitch 0.5mm, IPC Medium Density)
footprint INF-PG-TQFP-48-2_L (QFP, 48-Leads, Body 7x7mm, Pitch 0.5mm, IPC High Density)
footprint INF-PG-TQFP-48-2_M (QFP, 48-Leads, Body 7x7mm, Pitch 0.5mm, IPC Low Density)
pins: 1 P0.4 (io), 2 P0.5 (io), 3 XTAL2 "External Oscillator Output (backup for on-chip OSC, normally NC)", 4 XTAL1 "External Oscillator Input (backup for on-chip OSC, normally NC)", 5 VSSC (power) "Core Supply Ground", 6 VDDC (power) "Core Supply Monitor (2.5 V)", 7 VDDP (power) "I/O Port Supply (5.0 V) Also used by EVR and analog modules. All pins must be connected.", 8 P1.6 (io), 9 P1.7 (io), 10 TMS (in) "Test Mode Select", 11 P0.0 (io), 12 P0.2 (io), 13 P0.1 (io), 14 P2.0 (in), 15 P2.1 (in), 16 P2.2 (in), 17 VDDP (power) "I/O Port Supply (5.0 V) Also used by EVR and analog modules. All pins must be connected.", 18 VSSP (power) "I/O Port Ground All pins must be connected.", 19 P2.3 (in), 20 P2.4 (in), 21 P2.5 (in), 22 P2.6 (in), 23 VAGND (power) "ADC Reference Ground", 24 VAREF (power) "ADC Reference Voltage", 25 P2.7 (in), 26 P1.0 (io), 27 P1.1 (io), 28 P1.2 (io), 29 P1.3 (io), 30 P1.4 (io), 31 P1.5 (io), 32 P4.3 (io), 33 P3.6 (io), 34 P3.7 (io), 35 P3.0 (io), 36 P3.1 (io), 37 P3.2 (io), 38 P3.3 (io), 39 P3.4 (io), 40 P3.5 (io), 41 ~{RESET} (in) "Reset Input", 42 VSSP (power) "I/O Port Ground All pins must be connected.", 43 VDDP (power) "I/O Port Supply (5.0 V) Also used by EVR and analog modules. All pins must be connected.", 44 MBC (in) "Monitor & BootStrap Loader Control", 45 P4.0 (io), 46 P4.1 (io), 47 P0.7 (io), 48 P0.3 (io)

## SAA-XC886CM-8FFA 5V AC
designator U?
24 MHz XC800-Automotive MCU with 32 KByte Program Memory, 1.75 KByte SRAM, 5 V, PG-TQFP-48, Reel, Green; Manufacturer: Infineon; PartNumber: SAA-XC886CM-8FFA 5V AC; A / D input lines (incl. FADC): 8; CAN Nodes: 2; Digital I/O Lines: 34; DMA Channels: 0; DSP functionality (e.g MDU/MAC): TRUE; I/O Operation Voltages: 5 V; LIN BSL loader (for fast Flash programming): FALSE; Max Clock Frequency: 24 MHz; Number of ADC Modules: 1; Power Modes: 4; Real Time Clock (RTC): FALSE; Serial I/O Interfaces: 3; Type of Memory: Flash; Type of Serial I/O Interfaces: UART(2), SSC(1); DatasheetVersion: Rev. 1.1; PackageVersion: V1.2, 07/2009; PackageReference: PG-TQFP-48-2; PackageDescription: 48-Pin Plastic (Green) Thin Quad Flat Package, Body 7 x 7 mm, Pitch 0.5 mm; Supplier 1: Digi-Key; Supplier Part Number 1: SAA-XC886CM-8FFA 5V AC-ND; E2PROM Emulation (Data-Flash): TRUE; Green: TRUE; Halogen-free: TRUE; Instruction width [bits]: 8; On-chip clock generation: TRUE; On-chip Voltage Regulator: TRUE; Oscillator Watchdog: TRUE; Packing: Reel; Program Memory: 32 KByte; SRAM (incl. Cache): 1.75 KByte; Timed I/O Pins (PWM-Ch,CAPCOM): 4; Timer / Counter: 4; Watchdog Timer: TRUE; Mounting Technology: Surface Mount; ComponentLink1Description: Manufacturer URL; ComponentLink1URL: http://www.infineon.com/; ComponentLink2Description: Datasheet; ComponentLink2URL: http://www.infineon.com/dgdl/SAA_XC886CLM_ds_v1_1.pdf?folderId=db3a304412b407950112b40c497b0af6&fileId=db3a3043242ebc9e01242f158d250004; ComponentLink3Description: Package Specification; ComponentLink3URL: http://www.infineon.com/dgdl/XC88xCLM_ds_V1_2.pdf?folderId=db3a304412b407950112b408e8c90004&fileId=db3a304412b407950112b40c4a9e0afb&sId=db3a30433d956bc3013d9f3d9f5d28dc
footprint INF-PG-TQFP-48-2_N (QFP, 48-Leads, Body 7x7mm, Pitch 0.5mm, IPC Medium Density)
footprint INF-PG-TQFP-48-2_L (QFP, 48-Leads, Body 7x7mm, Pitch 0.5mm, IPC High Density)
footprint INF-PG-TQFP-48-2_M (QFP, 48-Leads, Body 7x7mm, Pitch 0.5mm, IPC Low Density)
pins: 1 P0.4 (io), 2 P0.5 (io), 3 XTAL2 "External Oscillator Output (backup for on-chip OSC, normally NC)", 4 XTAL1 "External Oscillator Input (backup for on-chip OSC, normally NC)", 5 VSSC (power) "Core Supply Ground", 6 VDDC (power) "Core Supply Monitor (2.5 V)", 7 VDDP (power) "I/O Port Supply (5.0 V) Also used by EVR and analog modules. All pins must be connected.", 8 P1.6 (io), 9 P1.7 (io), 10 TMS (in) "Test Mode Select", 11 P0.0 (io), 12 P0.2 (io), 13 P0.1 (io), 14 P2.0 (in), 15 P2.1 (in), 16 P2.2 (in), 17 VDDP (power) "I/O Port Supply (5.0 V) Also used by EVR and analog modules. All pins must be connected.", 18 VSSP (power) "I/O Port Ground All pins must be connected.", 19 P2.3 (in), 20 P2.4 (in), 21 P2.5 (in), 22 P2.6 (in), 23 VAGND (power) "ADC Reference Ground", 24 VAREF (power) "ADC Reference Voltage", 25 P2.7 (in), 26 P1.0 (io), 27 P1.1 (io), 28 P1.2 (io), 29 P1.3 (io), 30 P1.4 (io), 31 P1.5 (io), 32 P4.3 (io), 33 P3.6 (io), 34 P3.7 (io), 35 P3.0 (io), 36 P3.1 (io), 37 P3.2 (io), 38 P3.3 (io), 39 P3.4 (io), 40 P3.5 (io), 41 ~{RESET} (in) "Reset Input", 42 VSSP (power) "I/O Port Ground All pins must be connected.", 43 VDDP (power) "I/O Port Supply (5.0 V) Also used by EVR and analog modules. All pins must be connected.", 44 MBC (in) "Monitor & BootStrap Loader Control", 45 P4.0 (io), 46 P4.1 (io), 47 P0.7 (io), 48 P0.3 (io)

## SAA-XC886LM-6FFA 5V AC
designator U?
24 MHz XC800-Automotive MCU with 24 KByte Program Memory, 1.75 KByte SRAM, 5 V, PG-TQFP-48, Green; Manufacturer: Infineon; PartNumber: SAA-XC886LM-6FFA 5V AC; A / D input lines (incl. FADC): 8; CAN Nodes: 0; Digital I/O Lines: 34; DSP functionality (e.g MDU/MAC): TRUE; I/O Operation Voltages: 5 V; LIN BSL loader (for fast Flash programming): FALSE; Max Clock Frequency: 24 MHz; Number of ADC Modules: 1; Power Modes: 4; Real Time Clock (RTC): FALSE; Serial I/O Interfaces: 3; Type of Memory: Flash; Type of Serial I/O Interfaces: UART(2), SSC(1); DatasheetVersion: Rev. 1.1; PackageVersion: V1.2, 07/2009; PackageReference: PG-TQFP-48-2; PackageDescription: 48-Pin Plastic (Green) Thin Quad Flat Package, Body 7 x 7 mm, Pitch 0.5 mm; Supplier 1: Digi-Key; Supplier Part Number 1: SAA-XC886LM-6FFA AC-ND; DMA Channels: 0; E2PROM Emulation (Data-Flash): TRUE; Green: TRUE; Halogen-free: TRUE; Instruction width [bits]: 8; On-chip clock generation: TRUE; On-chip Voltage Regulator: TRUE; Oscillator Watchdog: TRUE; Program Memory: 24 KByte; SRAM (incl. Cache): 1.75 KByte; Timed I/O Pins (PWM-Ch,CAPCOM): 4; Timer / Counter: 4; Watchdog Timer: TRUE; Mounting Technology: Surface Mount; ComponentLink1Description: Manufacturer URL; ComponentLink1URL: http://www.infineon.com/; ComponentLink2Description: Datasheet; ComponentLink2URL: http://www.infineon.com/dgdl/SAA_XC886CLM_ds_v1_1.pdf?folderId=db3a304412b407950112b40c497b0af6&fileId=db3a3043242ebc9e01242f158d250004; ComponentLink3Description: Package Specification; ComponentLink3URL: http://www.infineon.com/dgdl/XC88xCLM_ds_V1_2.pdf?folderId=db3a304412b407950112b408e8c90004&fileId=db3a304412b407950112b40c4a9e0afb&sId=db3a30433d956bc3013d9f3d9f5d28dc
footprint INF-PG-TQFP-48-2_N (QFP, 48-Leads, Body 7x7mm, Pitch 0.5mm, IPC Medium Density)
footprint INF-PG-TQFP-48-2_L (QFP, 48-Leads, Body 7x7mm, Pitch 0.5mm, IPC High Density)
footprint INF-PG-TQFP-48-2_M (QFP, 48-Leads, Body 7x7mm, Pitch 0.5mm, IPC Low Density)
pins: 1 P0.4 (io), 2 P0.5 (io), 3 XTAL2 "External Oscillator Output (backup for on-chip OSC, normally NC)", 4 XTAL1 "External Oscillator Input (backup for on-chip OSC, normally NC)", 5 VSSC (power) "Core Supply Ground", 6 VDDC (power) "Core Supply Monitor (2.5 V)", 7 VDDP (power) "I/O Port Supply (5.0 V) Also used by EVR and analog modules. All pins must be connected.", 8 P1.6 (io), 9 P1.7 (io), 10 TMS (in) "Test Mode Select", 11 P0.0 (io), 12 P0.2 (io), 13 P0.1 (io), 14 P2.0 (in), 15 P2.1 (in), 16 P2.2 (in), 17 VDDP (power) "I/O Port Supply (5.0 V) Also used by EVR and analog modules. All pins must be connected.", 18 VSSP (power) "I/O Port Ground All pins must be connected.", 19 P2.3 (in), 20 P2.4 (in), 21 P2.5 (in), 22 P2.6 (in), 23 VAGND (power) "ADC Reference Ground", 24 VAREF (power) "ADC Reference Voltage", 25 P2.7 (in), 26 P1.0 (io), 27 P1.1 (io), 28 P1.2 (io), 29 P1.3 (io), 30 P1.4 (io), 31 P1.5 (io), 32 P4.3 (io), 33 P3.6 (io), 34 P3.7 (io), 35 P3.0 (io), 36 P3.1 (io), 37 P3.2 (io), 38 P3.3 (io), 39 P3.4 (io), 40 P3.5 (io), 41 ~{RESET} (in) "Reset Input", 42 VSSP (power) "I/O Port Ground All pins must be connected.", 43 VDDP (power) "I/O Port Supply (5.0 V) Also used by EVR and analog modules. All pins must be connected.", 44 MBC (in) "Monitor & BootStrap Loader Control", 45 P4.0 (io), 46 P4.1 (io), 47 P0.7 (io), 48 P0.3 (io)

## SAA-XC886LM-8FFA 5V AC
designator U?
24 MHz XC800-Automotive MCU with 32 KByte Program Memory, 1.75 KByte SRAM, 5 V, PG-TQFP-48, Reel, Green; Manufacturer: Infineon; PartNumber: SAA-XC886LM-8FFA 5V AC; A / D input lines (incl. FADC): 8; CAN Nodes: 0; Digital I/O Lines: 34; DSP functionality (e.g MDU/MAC): TRUE; I/O Operation Voltages: 5 V; LIN BSL loader (for fast Flash programming): FALSE; Max Clock Frequency: 24 MHz; Number of ADC Modules: 1; Power Modes: 4; Real Time Clock (RTC): FALSE; Serial I/O Interfaces: 3; Type of Memory: Flash; Type of Serial I/O Interfaces: UART(2), SSC(1); DatasheetVersion: Rev. 1.1; PackageVersion: V1.2, 07/2009; PackageReference: PG-TQFP-48-2; PackageDescription: 48-Pin Plastic (Green) Thin Quad Flat Package, Body 7 x 7 mm, Pitch 0.5 mm; Supplier 1: Digi-Key; Supplier Part Number 1: SAA-XC886LM-8FFA AC-ND; DMA Channels: 0; E2PROM Emulation (Data-Flash): TRUE; Green: TRUE; Halogen-free: TRUE; Instruction width [bits]: 8; On-chip clock generation: TRUE; On-chip Voltage Regulator: TRUE; Oscillator Watchdog: TRUE; Packing: Reel; Program Memory: 32 KByte; SRAM (incl. Cache): 1.75 KByte; Timed I/O Pins (PWM-Ch,CAPCOM): 4; Timer / Counter: 4; Watchdog Timer: TRUE; Mounting Technology: Surface Mount; ComponentLink1Description: Manufacturer URL; ComponentLink1URL: http://www.infineon.com/; ComponentLink2Description: Datasheet; ComponentLink2URL: http://www.infineon.com/dgdl/SAA_XC886CLM_ds_v1_1.pdf?folderId=db3a304412b407950112b40c497b0af6&fileId=db3a3043242ebc9e01242f158d250004; ComponentLink3Description: Package Specification; ComponentLink3URL: http://www.infineon.com/dgdl/XC88xCLM_ds_V1_2.pdf?folderId=db3a304412b407950112b408e8c90004&fileId=db3a304412b407950112b40c4a9e0afb&sId=db3a30433d956bc3013d9f3d9f5d28dc
footprint INF-PG-TQFP-48-2_N (QFP, 48-Leads, Body 7x7mm, Pitch 0.5mm, IPC Medium Density)
footprint INF-PG-TQFP-48-2_L (QFP, 48-Leads, Body 7x7mm, Pitch 0.5mm, IPC High Density)
footprint INF-PG-TQFP-48-2_M (QFP, 48-Leads, Body 7x7mm, Pitch 0.5mm, IPC Low Density)
pins: 1 P0.4 (io), 2 P0.5 (io), 3 XTAL2 "External Oscillator Output (backup for on-chip OSC, normally NC)", 4 XTAL1 "External Oscillator Input (backup for on-chip OSC, normally NC)", 5 VSSC (power) "Core Supply Ground", 6 VDDC (power) "Core Supply Monitor (2.5 V)", 7 VDDP (power) "I/O Port Supply (5.0 V) Also used by EVR and analog modules. All pins must be connected.", 8 P1.6 (io), 9 P1.7 (io), 10 TMS (in) "Test Mode Select", 11 P0.0 (io), 12 P0.2 (io), 13 P0.1 (io), 14 P2.0 (in), 15 P2.1 (in), 16 P2.2 (in), 17 VDDP (power) "I/O Port Supply (5.0 V) Also used by EVR and analog modules. All pins must be connected.", 18 VSSP (power) "I/O Port Ground All pins must be connected.", 19 P2.3 (in), 20 P2.4 (in), 21 P2.5 (in), 22 P2.6 (in), 23 VAGND (power) "ADC Reference Ground", 24 VAREF (power) "ADC Reference Voltage", 25 P2.7 (in), 26 P1.0 (io), 27 P1.1 (io), 28 P1.2 (io), 29 P1.3 (io), 30 P1.4 (io), 31 P1.5 (io), 32 P4.3 (io), 33 P3.6 (io), 34 P3.7 (io), 35 P3.0 (io), 36 P3.1 (io), 37 P3.2 (io), 38 P3.3 (io), 39 P3.4 (io), 40 P3.5 (io), 41 ~{RESET} (in) "Reset Input", 42 VSSP (power) "I/O Port Ground All pins must be connected.", 43 VDDP (power) "I/O Port Supply (5.0 V) Also used by EVR and analog modules. All pins must be connected.", 44 MBC (in) "Monitor & BootStrap Loader Control", 45 P4.0 (io), 46 P4.1 (io), 47 P0.7 (io), 48 P0.3 (io)

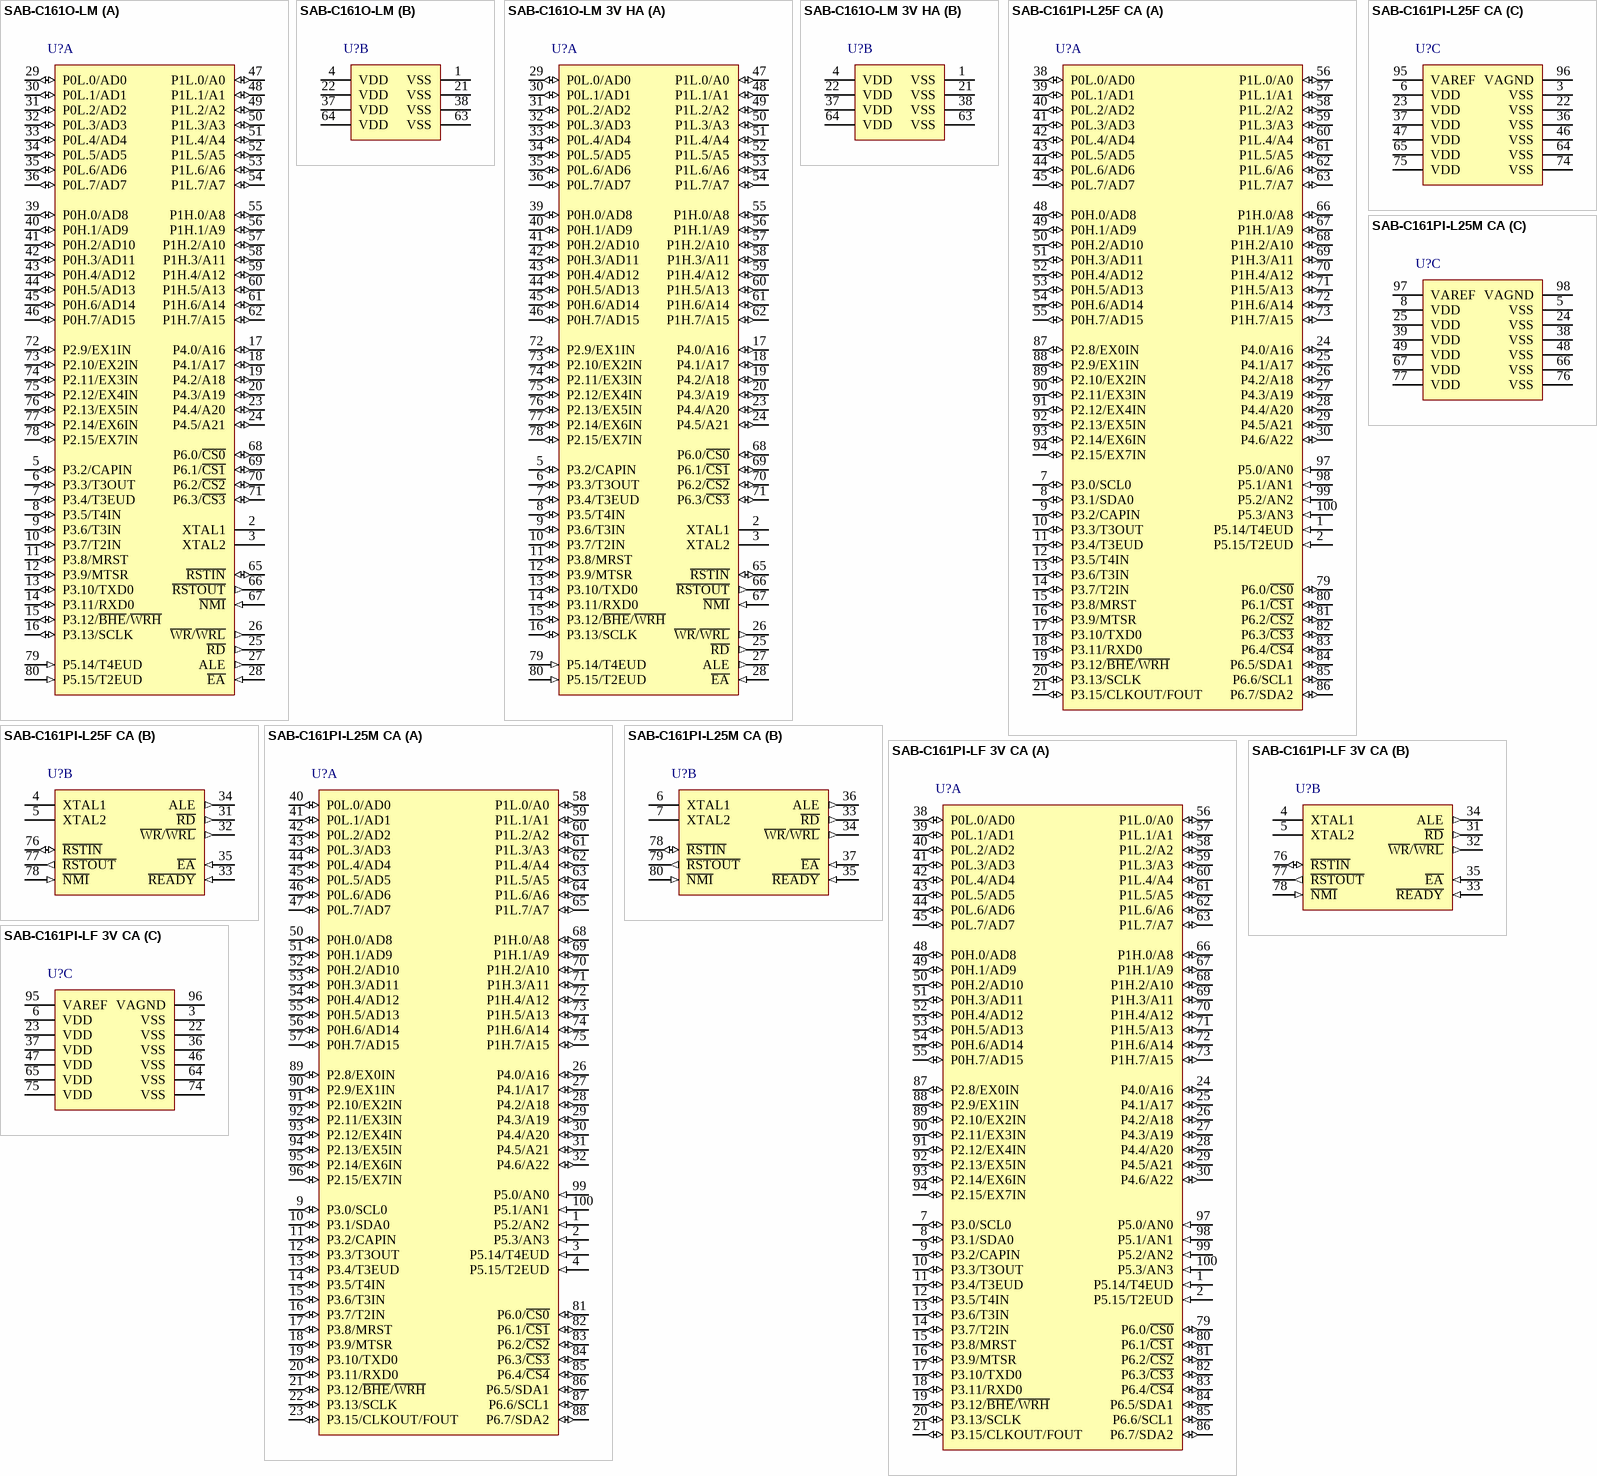
[diagram p1: symbols SAB-C161O-LM to SAB-C161PI-LF 3V CA]

## SAB-C161O-LM
designator U?
20 MHz C166 MCU without Program Memory, 2 KByte SRAM, 5 V, 0 to 70 degC, PG-MQFP-80, Reel, Green; Manufacturer: Infineon; PartNumber: SAB-C161O-LM; A / D input lines (incl. FADC): 0; Digital I/O Lines: 63; DSP functionality (e.g MDU/MAC): TRUE; I/O Operation Voltages: 5 V; Instruction width [bits]: 16; Max Clock Frequency: 20 MHz; Oscillator Watchdog: FALSE; Power Modes: 3; Serial I/O Interfaces: 2; SRAM (incl. Cache): 2 KByte; Timer / Counter: 5; Type of Memory: ROM less; Type of Serial I/O Interfaces: ASC(1), SSC(1); DatasheetVersion: Rev. 2.0; PackageVersion: V2.0, 01/2001; PackageReference: P-MQFP-80-1; PackageDescription: 80-Pin Plastic Metric Quad Flat Package, Body 14 x 14 mm, Pitch 0.65 mm; CAN Nodes: 0; DMA Channels: 0; External Bus interface: TRUE; Green: TRUE; Halogen-free: TRUE; Number of ADC Modules: 0; Packing: Reel; Real Time Clock (RTC): FALSE; Timed I/O Pins (PWM-Ch,CAPCOM): 0; Watchdog Timer: TRUE; Mounting Technology: Surface Mount; ComponentLink1Description: Manufacturer URL; ComponentLink1URL: http://www.infineon.com/; ComponentLink2Description: Datasheet; ComponentLink2URL: http://www.infineon.com/dgdl/c161ko_ds_v20_2001_01.pdf?folderId=db3a304412b407950112b43a44b56fc2&fileId=db3a304412b407950112b43a45456fc3; ComponentLink3Description: Package Specification; ComponentLink3URL: http://www.infineon.com/dgdl/c161ko_ds_v20_2001_01.pdf?folderId=db3a304412b407950112b43a44b56fc2&fileId=db3a304412b407950112b43a45456fc3
footprint INF-P-MQFP-80-1_N (QFP, 80-Leads, Body 14x14mm, Pitch 0.65mm, IPC Medium Density)
footprint INF-P-MQFP-80-1_L (QFP, 80-Leads, Body 14x14mm, Pitch 0.65mm, IPC High Density)
footprint INF-P-MQFP-80-1_M (QFP, 80-Leads, Body 14x14mm, Pitch 0.65mm, IPC Low Density)
part A pins: 2 XTAL1 "Input to the oscillator amplifier and input to the internal clock generator", 3 XTAL2 "Output of the oscillator amplifier circuit.", 5 P3.2/CAPIN (io), 6 P3.3/T3OUT (io), 7 P3.4/T3EUD (io), 8 P3.5/T4IN (io), 9 P3.6/T3IN (io), 10 P3.7/T2IN (io), 11 P3.8/MRST (io), 12 P3.9/MTSR (io), 13 P3.10/TXD0 (io), 14 P3.11/RXD0 (io), 15 P3.12/~{BHE}/~{WRH} (io), 16 P3.13/SCLK (io), 17 P4.0/A16 (io), 18 P4.1/A17 (io), 19 P4.2/A18 (io), 20 P4.3/A19 (io), 23 P4.4/A20 (io), 24 P4.5/A21 (io), 25 ~{RD} (out) "External Memory Read Strobe. R\D\ is activated for every external instruction or data read access.", 26 ~{WR}/~{WRL} (out) "External Memory Write Strobe. In W\R\-mode this pin is activated for every external data write access. In W\R\L\-mode this pin is activated for low byte data write accesses on a 16-bit bus, and for every data write access on (See Datasheet)", 27 ALE (out) "Address Latch Enable Output. Can be used for latching the address into external memory or an address latch in the multiplexed bus modes.", 28 ~{EA} (in) "External Access Enable pin. A low level at this pin during and after Reset forces the C161K/O to begin instruction execution out of external memory. A high level forces execution out of the internal program memory. (See Datasheet)", 29 P0L.0/AD0 (io), 30 P0L.1/AD1 (io), 31 P0L.2/AD2 (io), 32 P0L.3/AD3 (io), 33 P0L.4/AD4 (io), 34 P0L.5/AD5 (io), 35 P0L.6/AD6 (io), 36 P0L.7/AD7 (io), 39 P0H.0/AD8 (io), 40 P0H.1/AD9 (io), 41 P0H.2/AD10 (io), 42 P0H.3/AD11 (io), 43 P0H.4/AD12 (io), 44 P0H.5/AD13 (io), 45 P0H.6/AD14 (io), 46 P0H.7/AD15 (io), 47 P1L.0/A0 (io), 48 P1L.1/A1 (io), 49 P1L.2/A2 (io), 50 P1L.3/A3 (io), 51 P1L.4/A4 (io), 52 P1L.5/A5 (io), 53 P1L.6/A6 (io), 54 P1L.7/A7 (io), 55 P1H.0/A8 (io), 56 P1H.1/A9 (io), 57 P1H.2/A10 (io), 58 P1H.3/A11 (io), 59 P1H.4/A12 (io), 60 P1H.5/A13 (io), 61 P1H.6/A14 (io), 62 P1H.7/A15 (io), 65 ~{RSTIN} (io) "Reset Input with Schmitt-Trigger characteristics. A low level at this pin while the oscillator is running resets the C161K/O. An internal pullup resistor permits power-on reset using only a capacitor connected to VSS. A (See Datasheet)", 66 ~{RSTOUT} (out) "Internal Reset Indication Output. This pin is set to a low level when the part is executing either a hardware-, a software- or a watchdog timer reset. R\S\T\O\U\T\ remains low until the EINIT (end of initialization) (See Datasheet)", 67 ~{NMI} (in) "Non-Maskable Interrupt Input. A high to low transition at this pin causes the CPU to vector to the NMI trap routine. When the PWRDN (power down) instruction is executed, the N\M\I\ pin must be low in order to force the (See Datasheet)", 68 P6.0/~{CS0} (io), 69 P6.1/~{CS1} (io), 70 P6.2/~{CS2} (io), 71 P6.3/~{CS3} (io), 72 P2.9/EX1IN (io), 73 P2.10/EX2IN (io), 74 P2.11/EX3IN (io), 75 P2.12/EX4IN (io), 76 P2.13/EX5IN (io), 77 P2.14/EX6IN (io), 78 P2.15/EX7IN (io), 79 P5.14/T4EUD (in), 80 P5.15/T2EUD (in)
part B pins: 1 VSS (power) "Digital Ground.", 4 VDD (power) "Digital Supply Voltage: + 5 V during normal operation and idle mode.+ 3 V during reduced supply operation and idle mode.>= 2.5 V during power down mode.", 21 VSS (power) "Digital Ground.", 22 VDD (power) "Digital Supply Voltage: + 5 V during normal operation and idle mode.+ 3 V during reduced supply operation and idle mode.>= 2.5 V during power down mode.", 37 VDD (power) "Digital Supply Voltage: + 5 V during normal operation and idle mode.+ 3 V during reduced supply operation and idle mode.>= 2.5 V during power down mode.", 38 VSS (power) "Digital Ground.", 63 VSS (power) "Digital Ground.", 64 VDD (power) "Digital Supply Voltage: + 5 V during normal operation and idle mode.+ 3 V during reduced supply operation and idle mode.>= 2.5 V during power down mode."